# EAGLE library part AUREL_BC-NBK (library aurel)
Ricevitore RF 433,92 MHz
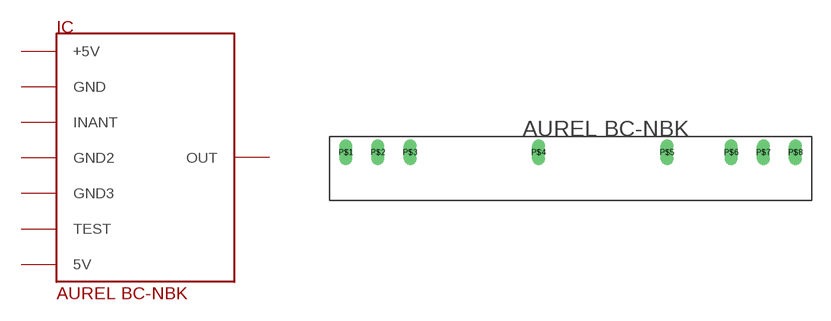
[diagram p1: symbol with the pads of AUREL_BC-NBK; footprint AUREL_BC-NBK]

Designator prefix IC

## AUREL_BC-NBK  [AUREL_BC-NBK]
P$1  +5V
P$2  GND
P$3  INANT
P$4  GND2
P$5  GND3
P$6  TEST
P$7  OUT
P$8  5V

## Footprint AUREL_BC-NBK (pad centres in mm)
Ricevitore RF 433,92 MHz
drill 0.406 pad 1.016 long: P$1 -20.32,1.27; P$2 -17.78,1.27; P$3 -15.24,1.27; P$4 -5.08,1.27; P$5 5.08,1.27; P$6 10.16,1.27; P$7 12.7,1.27; P$8 15.24,1.27